# Altium schematic symbol library HD3.SchLib: 27 symbols
Pins are listed as number, name and electrical type; pins without a type are passive.

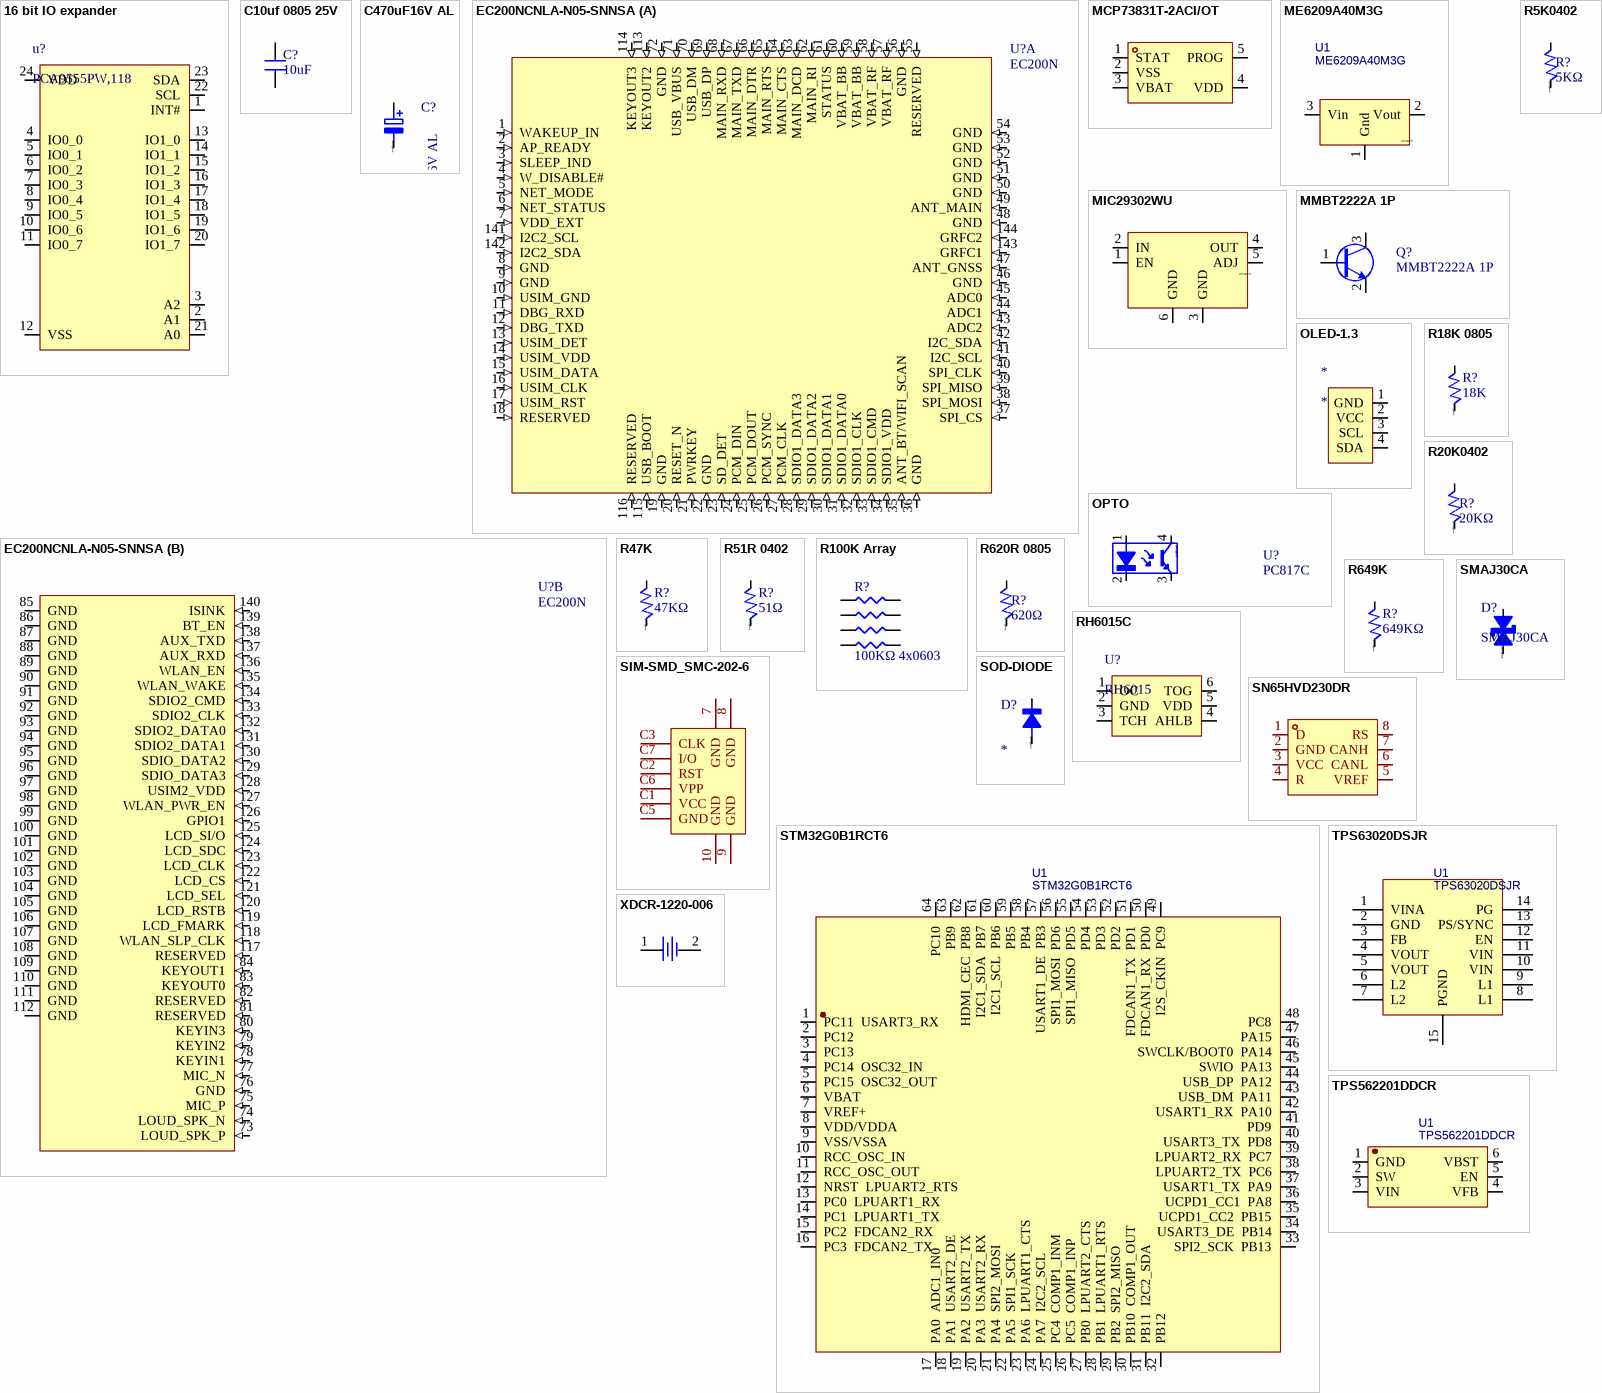
[diagram p0: symbols 16 bit IO expander to XDCR-1220-006]

## 16 bit IO expander
designator u?, comment PCA9555PW,118
16 bit io expander i2c; DES: 16 400kHz TSSOP-24 I/O Expanders ROHS; JLC: C128392; MFAC: PCA9555PW,118
footprint PCA9555PW,118 (16bit io expander)
pins: 1 INT#, 2 A1, 3 A2, 4 IO0_0, 5 IO0_1, 6 IO0_2, 7 IO0_3, 8 IO0_4, 9 IO0_5, 10 IO0_6, 11 IO0_7, 12 VSS, 13 IO1_0, 14 IO1_1, 15 IO1_2, 16 IO1_3, 17 IO1_4, 18 IO1_5, 19 IO1_6, 20 IO1_7, 21 A0, 22 SCL, 23 SDA, 24 VDD

## C10uf 0805 25V
designator C?, comment 10uF
MFAC: GRM21BR61E106KA73L; DES: 62.5mW Thick Film Resistors 50V ±100ppm/℃ ±1% 51Ω 0402 Chip Resistor - Surface Mount ROHS; JLC: C84416
footprint 0402
footprint AXIAL0.4
footprint 0805
footprint 0704
footprint 0402
footprint 0603
footprint 0603
pins: 1, 2

## C470uF16V AL
designator C?, comment 100uF 16V AL
MFAC: RVT1E471M1010; DES: 470uF 25V ±20% SMD,D10xL10.2mm Aluminum Electrolytic Capacitors - SMD ROHS; JLC: C3351
footprint C470uf
pins: 1, 2
text: @DesignPCB

## EC200NCNLA-N05-SNNSA
designator U?, comment EC200N
MFAC: EC200NCNLA-N05-SNNSA; DES: LCC+LGA-144_29.0X32.0X1.3P Pre-ordered Products ROHS; JLC: C2874887
footprint EC200NCNLA-N05-SNNSA
part A pins: 1 WAKEUP_IN (in), 2 AP_READY (in), 3 SLEEP_IND (in), 4 W_DISABLE# (in), 5 NET_MODE (in), 6 NET_STATUS (in), 7 VDD_EXT (in), 8 GND (in), 9 GND (in), 10 USIM_GND (in), 11 DBG_RXD (in), 12 DBG_TXD (in), 13 USIM_DET (in), 14 USIM_VDD (in), 15 USIM_DATA (in), 16 USIM_CLK (in), 17 USIM_RST (in), 18 RESERVED (in), 19 GND (in), 20 RESET_N (in), 21 PWRKEY (in), 22 GND (in), 23 SD_DET (in), 24 PCM_DIN (in), 25 PCM_DOUT (in), 26 PCM_SYNC (in), 27 PCM_CLK (in), 28 SDIO1_DATA3 (in), 29 SDIO1_DATA2 (in), 30 SDIO1_DATA1 (in), 31 SDIO1_DATA0 (in), 32 SDIO1_CLK (in), 33 SDIO1_CMD (in), 34 SDIO1_VDD (in), 35 ANT_BT/WIFI_SCAN (in), 36 GND (in), 37 SPI_CS (in), 38 SPI_MOSI (in), 39 SPI_MISO (in), 40 SPI_CLK (in), 41 I2C_SCL (in), 42 I2C_SDA (in), 43 ADC2 (in), 44 ADC1 (in), 45 ADC0 (in), 46 GND (in), 47 ANT_GNSS (in), 48 GND (in), 49 ANT_MAIN (in), 50 GND (in), 51 GND (in), 52 GND (in), 53 GND (in), 54 GND (in), 55 RESERVED (in), 56 GND (in), 57 VBAT_RF (in), 58 VBAT_RF (in), 59 VBAT_BB (in), 60 VBAT_BB (in), 61 STATUS (in), 62 MAIN_RI (in), 63 MAIN_DCD (in), 64 MAIN_CTS (in), 65 MAIN_RTS (in), 66 MAIN_DTR (in), 67 MAIN_TXD (in), 68 MAIN_RXD (in), 69 USB_DP (in), 70 USB_DM (in), 71 USB_VBUS (in), 72 GND (in), 113 KEYOUT2 (in), 114 KEYOUT3 (in), 115 USB_BOOT (in), 116 RESERVED (in), 141 I2C2_SCL (in), 142 I2C2_SDA (in), 143 GRFC1 (in), 144 GRFC2 (in)
part B pins: 73 LOUD_SPK_P (in), 74 LOUD_SPK_N (in), 75 MIC_P (in), 76 GND (in), 77 MIC_N (in), 78 KEYIN1 (in), 79 KEYIN2 (in), 80 KEYIN3 (in), 81 RESERVED (in), 82 RESERVED (in), 83 KEYOUT0 (in), 84 KEYOUT1 (in), 85 GND (power), 86 GND (power), 87 GND (power), 88 GND (power), 89 GND (power), 90 GND (power), 91 GND (power), 92 GND (power), 93 GND (power), 94 GND (power), 95 GND (power), 96 GND (power), 97 GND (power), 98 GND (power), 99 GND (power), 100 GND (power), 101 GND (power), 102 GND (power), 103 GND (power), 104 GND (power), 105 GND (power), 106 GND (power), 107 GND (power), 108 GND (power), 109 GND (power), 110 GND (power), 111 GND (power), 112 GND (power), 117 RESERVED (in), 118 WLAN_SLP_CLK (in), 119 LCD_FMARK (in), 120 LCD_RSTB (in), 121 LCD_SEL (in), 122 LCD_CS (in), 123 LCD_CLK (in), 124 LCD_SDC (in), 125 LCD_SI/O (in), 126 GPIO1 (in), 127 WLAN_PWR_EN (in), 128 USIM2_VDD (in), 129 SDIO_DATA3 (in), 130 SDIO_DATA2 (in), 131 SDIO2_DATA1 (in), 132 SDIO2_DATA0 (in), 133 SDIO2_CLK (in), 134 SDIO2_CMD (in), 135 WLAN_WAKE (in), 136 WLAN_EN (in), 137 AUX_RXD (in), 138 AUX_TXD (in), 139 BT_EN (in), 140 ISINK (in)

## MCP73831T-2ACI/OT
designator U?  (value not drawn)
Manufacturer: MICROCHIP(美国微芯); Add into BOM: yes; Supply Voltage: 6V; Maximum Charge Current: 500mA; Type of Battery: 锂离子/Polymer; Number of Cells: 1; MFAC: MCP73831T-2ACI/OT; Device: MCP73831T-2ACI/OT; LCSC Part Name: MCP73831T-2ACI/OT; JLC: C424093; Manufacturer Part: MCP73831T-2ACI/OT; Supplier Footprint: SOT-23-5; JLCPCB Part Class: Extended Part; Datasheet: https://atta.szlcsc.com/upload/public/pdf/source/20190902/C424093_BB3CBFD6F009A8554318004A07DA97EE.pdf; Supplier: LCSC; Convert to PCB: yes; Operating Temperature: -40℃~+85℃
footprint MCP73831T-2ACI/OT
pins: 1 STAT, 2 VSS, 3 VBAT, 4 VDD, 5 PROG

## ME6209A40M3G
designator U1
Manufacturer: MICRONE(南京微盟); Supplier: LCSC; Manufacturer Part: ME6209A40M3G; JLC: C83509; JLCPCB Part Class: Extended Part; spicePre: U; spiceSymbolName: ME6209A40M3G
footprint ME6209A40M3G
pins: 1 Gnd, 2 Vout, 3 Vin
text: @DesignPCB

## MIC29302WU
designator U?  (value not drawn)
Manufacturer: UMW(友台半导体); Symbol: MIC29302WU_C2995533; Add into BOM: yes; Output Type: Adjustable; Maximum Input Voltage: 20V; Output Current: 3A; Device: MIC29302WU; LCSC Part Name: 3A Fast-Response LDO Regulator; Supplier Part: C2995533; Manufacturer Part: MIC29302WU; Supplier Footprint: TO-263-5; JLCPCB Part Class: Extended Part; Datasheet: https://atta.szlcsc.com/upload/public/pdf/source/20240926/08CA08597BFD7853057AA587E80CBEB1.pdf; Supplier: LCSC; Convert to PCB: yes; Output Voltage: -; Power Supply Rejection Ratio (PSRR): -; Dropout Voltage: -; standby current: -; Noise: -; Feature: ESD Protection；Thermal Protection(TSD)；Overcurrent Protection(OCP)；With ability; Operating Temperature: -40℃~+125℃@(Tj)
footprint MIC29302WU
pins: 1 EN, 2 IN, 3 GND, 4 OUT, 5 ADJ, 6 GND
text: @DesignPCB

## MMBT2222A 1P
designator Q?
40V 300mW 600mA NPN SOT-23 Bipolar (BJT) ROHS; JLC: C8512; MFAC: MMBT2222A 1P
footprint MMBT2222A 1P
pins: 1 B, 2 E, 3 C

## OLED-1.3
designator *
footprint OLED-1.3INCH
pins: 1 GND, 2 VCC, 3 SCL, 4 SDA

## OPTO
designator U?, comment PC817C
5kV 50mA 100mV@1mA,20mA 1 6V 1.2V DC SMD-4P Transistor, Photovoltaic Output Optoisolators ROHS; JLC: C3025164; MFAC: PC817C
footprint OPTO
pins: 1 A, 2 C, 3 E, 4 CL
text: @DesignPCB

## R5K0402
designator R?, comment 5KΩ
62.5mW Thick Film Resistors 50V ±100ppm/℃ ±1% 5kΩ 0402 Chip Resistor - Surface Mount ROHS; MFAC: RC0402FR-075KL; JLC: C477765
footprint 0805
footprint AXIAL0.4
footprint 0402
footprint 0704
footprint 0402
pins: 1, 2
text: @DesignPCB

## R18K 0805
designator R?, comment 18K
MFAC: 0805W8F1802T5E; DES: 62.5mW Thick Film Resistors 50V ±100ppm/℃ ±1% 51Ω 0402 Chip Resistor - Surface Mount ROHS; JLC: C17506
footprint 0402
footprint AXIAL0.4
footprint 0805
footprint 0704
footprint 0402
footprint 0603
footprint 0603
pins: 1, 2
text: @DesignPCB

## R20K0402
designator R?, comment 20KΩ
62.5mW Thick Film Resistors 50V ±100ppm/℃ ±1% 20kΩ 0402 Chip Resistor - Surface Mount ROHS; MFAC: RC0402FR-0720KL; JLC: C93942
footprint 0805
footprint AXIAL0.4
footprint 0402
footprint 0704
footprint 0402
pins: 1, 2
text: @DesignPCB

## R47K
designator R?, comment 47KΩ
MFAC: RC0603JR-0747KL; JLC: C127447
footprint 0805
footprint AXIAL0.4
footprint 0402
footprint 0704
footprint 0603
footprint 0603
pins: 1, 2
text: @DesignPCB

## R51R 0402
designator R?, comment 51Ω
MFAC: AC0402FR-0751RL; DES: 62.5mW Thick Film Resistors 50V ±100ppm/℃ ±1% 51Ω 0402 Chip Resistor - Surface Mount ROHS; JLC: C227127
footprint 0402
footprint AXIAL0.4
footprint 0402
footprint 0704
footprint 0402
footprint 0603
footprint 0603
pins: 1, 2
text: @DesignPCB

## R100K Array
designator R?, comment 100KΩ 4x0603
MFAC: YC164-FR-07100KL; JLC: C110374
footprint 0603ARRAY
pins: 1 R1, 2 R2, 3 R3, 4 R4, 5 R5, 6 R6, 7 R7, 8 R8

## R620R 0805
designator R?, comment 620Ω
125mW Thick Film Resistors 150V ±100ppm/℃ ±1% 620Ω 0805 Chip Resistor - Surface Mount ROHS; MFAC: 0805W8F6200T5E; JLC: C17782
footprint 0805
footprint AXIAL0.4
footprint 0402
footprint 0704
footprint 0805
pins: 1, 2
text: @DesignPCB

## R649K
designator R?, comment 649KΩ
MFAC: 0603WAF6493T5E; JLC: C25821
footprint 0603
pins: 1, 2
text: @DesignPCB

## RH6015C
designator U?, comment RH6015
MFAC: RH6015C; JLC: C78180
footprint SOT-23-6_L2.9-W1.6-P0.95-LS2.8-BR (Footprint not found)
pins: 1 OC, 2 GND, 3 TCH, 4 AHLB, 5 VDD, 6 TOG

## SIM-SMD_SMC-202-6
designator CARD?
Manufacturer: XUNPU(讯普); Device: SMC-202-6; Add into BOM: yes; Card Connection Mode: Self-bouncing; Card Type: MicroSIM Card; Connector Type: Card Slot; Card Detection: No Card Detection; Body Height (Max): 1.35mm; JLC: C266634; MFAC: SMC-202-6; Supplier Footprint: SMD; JLCPCB Part Class: Extended Part; Datasheet: https://atta.szlcsc.com/upload/public/pdf/source/20210906/4EE417A7320363AE91408A7279B36F10.pdf; Supplier: LCSC; Convert to PCB: yes; Supplementary Features: -; Operating Temperature Range: -40℃~+85℃
footprint SIM-SMD_SMC-202-6
pins: 7 GND, 8 GND, 9 GND, 10 GND, C1 VCC, C2 RST, C3 CLK, C5 GND, C6 VPP, C7 I/O

## SMAJ30CA
designator D?
8.3A 400W 48.4V 33.3V 30V SMA(DO-214AC) ESD and Surge Protection (TVS/ESD) ROHS; JLC: C908828; MFAC: SMAJ30CA
footprint SMAJ30CA
pins: A, K
text: @DesignPCB

## SN65HVD230DR
designator U?  (value not drawn)
Manufacturer: TI(德州仪器); Add into BOM: yes; Data Rate: 1Mbps; Supply Voltage: 3V~3.6V; Symbol: SN65HVD230DR; Device: SN65HVD230DR; LCSC Part Name: 1Mbps 3V~3.6V; Supplier Part: C12084; Manufacturer Part: SN65HVD230DR; Supplier Footprint: SOIC-8; JLCPCB Part Class: Extended Part; Datasheet: https://www.ti.com/cn/lit/gpn/sn65hvd230; Supplier: LCSC; Convert to PCB: yes; Type: Transceiver; Operating Temperature: -40℃~+85℃
footprint SN65HVD230DR
pins: 1 D, 2 GND, 3 VCC, 4 R, 5 VREF, 6 CANL, 7 CANH, 8 RS

## SOD-DIODE
designator D?
ManufacturerName: SOD4007-MS; JLCPCB: C3008061
footprint diode sod
pins: A, K
text: @DesignPCB

## STM32G0B1RCT6
designator U1
Manufacturer: ST(意法半导体); Contributor: lcsc; Supplier: LCSC; JLC: C3034735; MFAC: STM32G0B1RCT6; JLCPCB Part Class: Extended Part; spicePre: U; spiceSymbolName: STM32G0B1RCT6
footprint STM32G0B1RCT6
pins: 1 PC11  USART3_RX, 2 PC12, 3 PC13, 4 PC14  OSC32_IN, 5 PC15  OSC32_OUT, 6 VBAT, 7 VREF+, 8 VDD/VDDA, 9 VSS/VSSA, 10 RCC_OSC_IN, 11 RCC_OSC_OUT, 12 NRST  LPUART2_RTS, 13 PC0  LPUART1_RX, 14 PC1  LPUART1_TX, 15 PC2  FDCAN2_RX, 16 PC3  FDCAN2_TX, 17 PA0  ADC1_IN0, 18 PA1  USART2_DE, 19 PA2  USART2_TX, 20 PA3  USART2_RX, 21 PA4  SPI2_MOSI, 22 PA5  SPI1_SCK, 23 PA6  LPUART1_CTS, 24 PA7  I2C2_SCL, 25 PC4  COMP1_INM, 26 PC5  COMP1_INP, 27 PB0  LPUART2_CTS, 28 PB1  LPUART1_RTS, 29 PB2  SPI2_MISO, 30 PB10  COMP1_OUT, 31 PB11  I2C2_SDA, 32 PB12, 33 SPI2_SCK  PB13, 34 USART3_DE  PB14, 35 UCPD1_CC2  PB15, 36 UCPD1_CC1  PA8, 37 USART1_TX  PA9, 38 LPUART2_TX  PC6, 39 LPUART2_RX  PC7, 40 USART3_TX  PD8, 41 PD9, 42 USART1_RX  PA10, 43 USB_DM  PA11, 44 USB_DP  PA12, 45 SWIO  PA13, 46 SWCLK/BOOT0  PA14, 47 PA15, 48 PC8, 49 I2S_CKIN  PC9, 50 FDCAN1_RX  PD0, 51 FDCAN1_TX  PD1, 52 PD2, 53 PD3, 54 PD4, 55 SPI1_MISO  PD5, 56 SPI1_MOSI  PD6, 57 USART1_DE  PB3, 58 PB4, 59 PB5, 60 I2C1_SCL  PB6, 61 I2C1_SDA  PB7, 62 HDMI_CEC  PB8, 63 PB9, 64 PC10

## TPS63020DSJR
designator U1
Boost type Adjustable 1.2V~5.5V 1.8V~5.5V 3.5A VSON-14-EP(3x4) DC-DC Converters ROHS; Manufacturer: TI(德州仪器); Supplier: LCSC; Manufacturer Part: TPS63020DSJR; JLC: C15483; JLCPCB Part Class: Extended Part; spicePre: U; spiceSymbolName: TPS63020DSJR
footprint TPS63020DSJR
pins: 1 VINA, 2 GND, 3 FB, 4 VOUT, 5 VOUT, 6 L2, 7 L2, 8 L1, 9 L1, 10 VIN, 11 VIN, 12 EN, 13 PS/SYNC, 14 PG, 15 PGND

## TPS562201DDCR
designator U1
Manufacturer: TI(德州仪器); Supplier: LCSC; Manufacturer Part: TPS562201DDCR; Supplier Part: C90061; JLCPCB Part Class: Extended Part; spicePre: U; spiceSymbolName: TPS562201DDCR
footprint TPS562201DDCR
pins: 1 GND, 2 SW, 3 VIN, 4 VFB, 5 EN, 6 VBST

## XDCR-1220-006
designator U?  (value not drawn)
Manufacturer: LX(连欣科技); Add into BOM: yes; Connector Type: Battery holder; Battery Type: CR1220; Symbol: XDCR-1220-006; Device: XDCR-1220-006; LCSC Part Name: 电池底座 适用电池:CR1220; Supplier Part: C7498147; Manufacturer Part: XDCR-1220-006; Supplier Footprint: SMD; JLCPCB Part Class: Extended Part; Datasheet: https://atta.szlcsc.com/upload/public/pdf/source/20230925/F169C68BCD9C1D37704E8697A39B6B0C.pdf; Supplier: LCSC; Convert to PCB: yes; Contact Material: -; Contact Plating: Gold; Operating Temperature Range: -40℃~+85℃
footprint bat_holder
pins: 1, 2